# Altium footprint library Components - 17.05.24 - 13.28.PcbLib: 1 footprints
Each footprint in its own frame and in the unit in brackets; x right, y up, seen from the top. Pads: shape width x height; smd on the part's side, far side on the other; paste and mask are expansions set on the pad; w line width, h text height; cw(c..) or ccw(c..) is an arc to the next point about the centre after c.
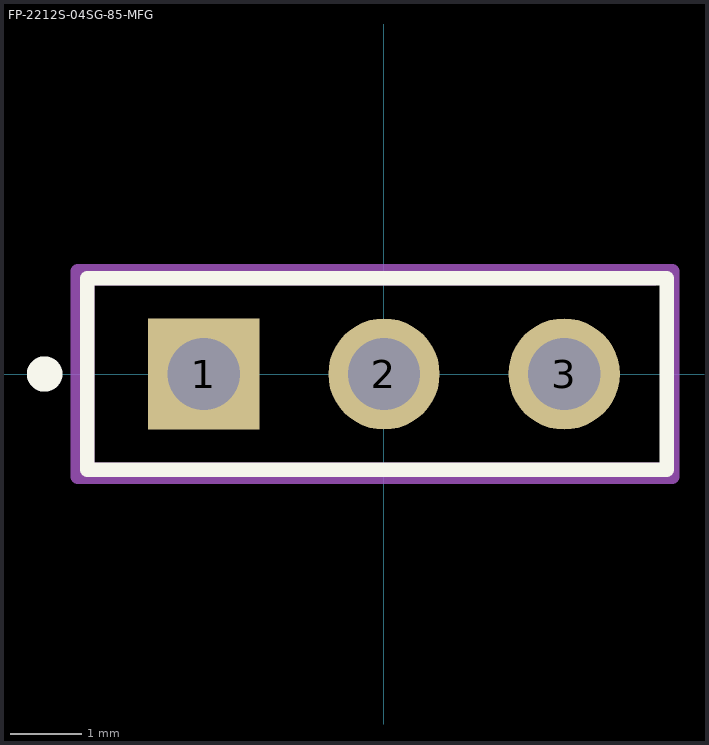
[diagram p0: the footprint, top view; thin cyan lines are the x and y axes]

## FP-2212S-04SG-85-MFG [mm]
pads (3):
  rect 1.57x1.57 hole 1.02 paste-1000 mask+0: 1(-2.54,0)
  round 1.57 hole 1.02 paste-1000 mask+0: 2(0,0) 3(2.54,0)
Top Overlay:
  circle w0.25: c-4.785,0 r0.125
  lines w0.2: -4.185,-1.35 -4.185,1.35 3.988,1.35 3.988,-1.35 -4.185,-1.35
Mechanical 5:
  lines w0.2: 3.937,-1.45 -4.285,-1.45 -4.285,1.45 3.937,1.45
  text ".Designator" at -2.184,0.289 h1
Mechanical 13:
  lines w0.2: 3.81,1.35 -4.185,1.35 -4.185,-1.35 3.937,-1.35
Mechanical 15:
  lines w0.2: 3.378,1.448 4.064,1.448 4.064,0.699 4.064,-0.699 4.064,-1.397 ; 3.937,1.45 -4.318,1.45 -4.318,0.611 -4.318,-1.066 -4.318,-1.45 4.064,-1.45
Mechanical 16:
  lines w0.1: -0.5,0 0.5,0 ; 0,-0.5 0,0.5
3D body: height 0.25, standoff 0, extent -4.285,-1.45 3.937,1.45